# EAGLE library part OP07 (library TI)
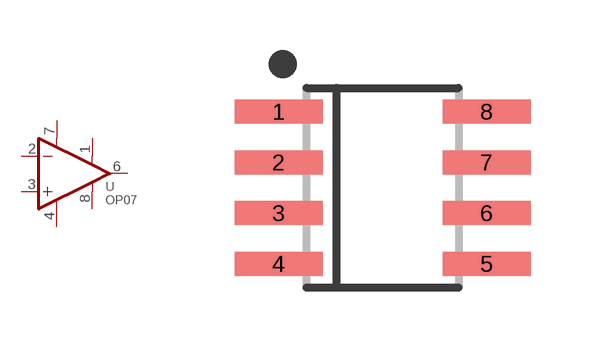
[diagram p15: symbol with the pads of SOIC-8; footprint SOIC-8]

Designator prefix U

## OP07CDR  [SOIC-8]
1  OFFSET1
2  -IN  in
3  +IN  in
4  V-  pwr
6  OUT  out
7  V+  pwr
8  OFFSET2

## Footprint SOIC-8 (pad centres in mm)
smd 2.2 x 0.6: 1 -2.6,1.905; 2 -2.6,0.635; 3 -2.6,-0.635; 4 -2.6,-1.905; 5 2.6,-1.905; 6 2.6,-0.635; 7 2.6,0.635; 8 2.6,1.905